# EAGLE library part WE-RJ45_74981104402 (library WE-RJ45_LAN)
WE-RJ45 LAN Transformer Characteristics RJ45 Connector with integrated transformer / common mode choke Power over Ethernet up to 50 Watt and speeds up to 10 Gbit/s Available in SMD, THT and THT with USB Compliant with standards: IEEE 802.3u, IEEE 802.3ab, IEEE 802.3af, IEEE 802.3at, IEEE 802.3an and upcoming IEE 802.3bt Applications Suitable for industrial temperatures from –40 °C up to +85 °C Compatible to Industrial Ethernet systems like EtherCAT or Profinet Compliant with most IC’s for Ethernet applications such as Microchip, Texas Instruments, Broadcom, Linear Technology Hubs, Routers, Switches, IP cameras, IoT applications <https://www.we-online.com/components/media/o35731v209%20Family-WE-RJ45LAN-7499xxxxxx.jpg> Details see: www.we-online.com/components/products/WE-LAN-RJ45 <www.we-online.com/catalog/WE-LAN-RJ45/?utm_source=eagle_model&utm_medium=description_link&utm_campaign=eisos_eagle> Created By Ella Wu 2021-09-06 2021 (C) Wurth Elektronik
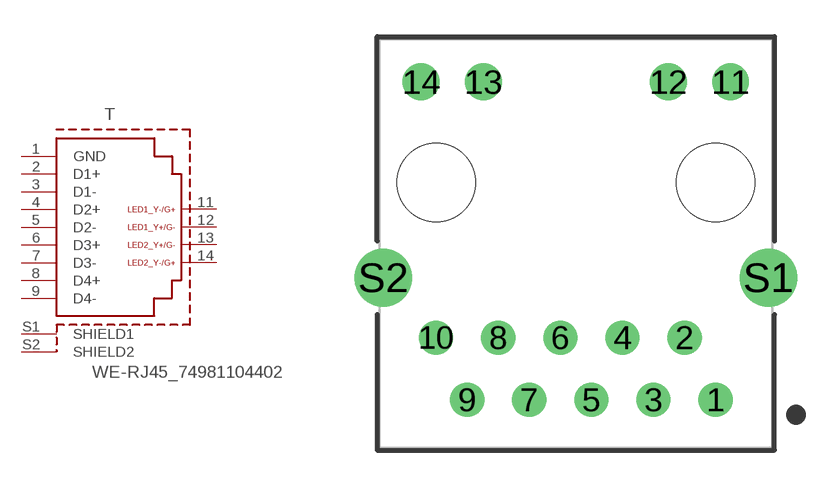
[diagram p34: symbol with the pads of 74981104402; footprint 74981104402]

Designator prefix T

## WE-RJ45_74981104402 (DATA-RATE: 1000BASE-T; DATASHEET-URL: https://www.we-online.com/redexpert/spec/74981104402?ae; IMPROVED-CMRR: No; LED: yellow/green-yellow/green; MOUNT: THT; OPERATING-TEMPERATURE: -40 °C up to +85 °C; PART-NUMBER: 74981104402; PHY-CHIP-MODE: voltage; POE: non-PoE; PORTS: 1; SHIELD-TABS: No; TAB: Vertical; USB: No; VALUE: 74981104402)  [74981104402]
1  GND  pas
2  D1+  pas
3  D1-  pas
4  D2+  pas
5  D2-  pas
6  D3+  pas
7  D3-  pas
8  D4+  pas
9  D4-  pas
11  LED1_Y-/G+  pas
12  LED1_Y+/G-  pas
13  LED2_Y+/G-  pas
14  LED2_Y-/G+  pas
S1  SHIELD1  pas
S2  SHIELD2  pas

## Footprint 74981104402 (pad centres in mm)
WE-RJ45 LAN Transformer 10/100/1000 Base-T
drill 0.89: 1 5.715,-8.89; 2 4.445,-6.35; 3 3.175,-8.89; 4 1.905,-6.35; 5 0.635,-8.89; 6 -0.635,-6.35; 7 -1.905,-8.89; 8 -3.175,-6.35; 9 -4.445,-8.89; 10 -5.715,-6.35
drill 1: 11 6.325,4.11; 12 3.785,4.11; 13 -3.785,4.11; 14 -6.325,4.11
drill 1.57: S1 7.875,-3.9; S2 -7.875,-3.9
hole 3.2 at -5.715,0
hole 3.2 at 5.715,0